# EAGLE library part ES_12V_PSU (library Electrosmith_Boards)
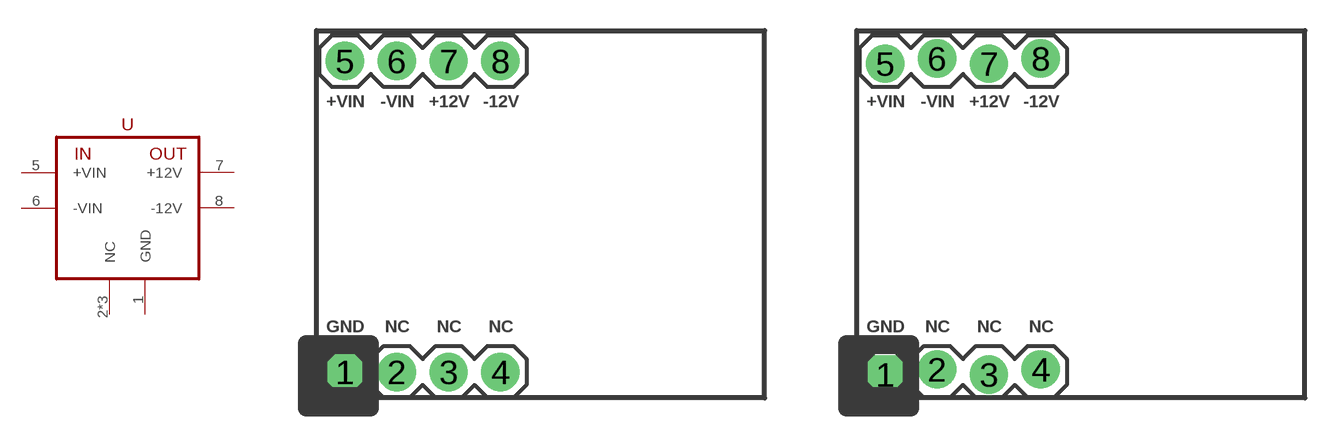
[diagram p15: symbol with the pads of ES_12V_PSU; footprints ES_12V_PSU, ES_12V_PSU_LOCK]

Designator prefix U

## ES_12V_PSU  [ES_12V_PSU]
1  GND
2  NC
3  NC
4  NC
5  +VIN
6  -VIN
7  +12V
8  -12V

## ES_12V_PSU_LOCK  [ES_12V_PSU_LOCK]
Pads as for ES_12V_PSU

## Footprint ES_12V_PSU (pad centres in mm)
drill 1.016 pad 1.88 square: 1 1.395,1.268
drill 1.016 pad 1.88: 2 3.935,1.268; 3 6.475,1.268; 4 9.015,1.268; 5 1.395,16.508; 6 3.935,16.508; 7 6.475,16.508; 8 9.015,16.508

## Footprint ES_12V_PSU_LOCK (pad centres in mm)
drill 1.016 pad 1.88 square: 1 1.395,1.141
drill 1.016 pad 1.88: 2 3.935,1.395; 3 6.475,1.141; 4 9.015,1.395; 5 1.395,16.381; 6 3.935,16.635; 7 6.475,16.381; 8 9.015,16.635